# Altium schematic symbol library MA-506.Schlib: 1 symbol
Pins are listed as number, name and electrical type; pins without a type are passive.

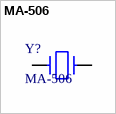
[diagram p0: symbol MA-506]

## MA-506
designator Y?
pins: 1, 4